# Altium footprint library Markovic_Mario.PcbLib: 2 footprints
Each footprint in its own frame and in the unit in brackets; x right, y up, seen from the top. Pads: shape width x height; smd on the part's side, far side on the other; paste and mask are expansions set on the pad; w line width, h text height; cw(c..) or ccw(c..) is an arc to the next point about the centre after c.
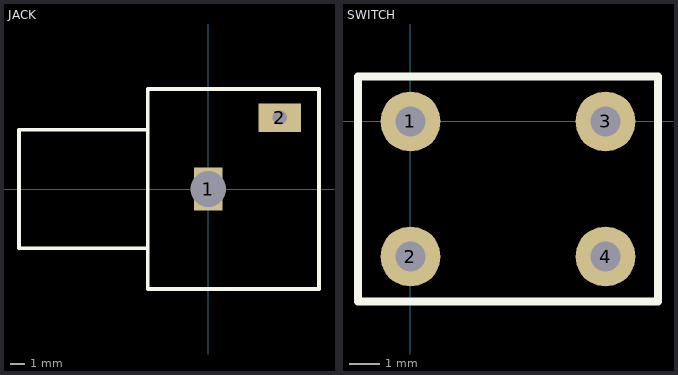
[diagram p0: the footprints below, top view; thin cyan lines are the x and y axes]

## JACK [mm]
pads (2):
  rect 2x3 hole 2.5 square: 1(0,0)
  rect 3x2 hole 1 square: 2(5,5)
Top Overlay:
  lines w0.254: -4.25,-4.15 -13.25,-4.15 -13.25,4.15 -4.25,4.15 -4.25,-4.15 ; -4.25,-4.15 -4.25,-7 7.75,-7 7.75,7 -4.25,7 -4.25,-4.15

## SWITCH [mm]
pads (4):
  round 2 hole 1: 1(0,0) 2(0,-4.5) 3(6.5,0) 4(6.5,-4.5)
Top Overlay:
  lines w0.254: -1.75,-6 -1.75,1.5 8.25,1.5 8.25,-6 -1.75,-6